# EAGLE library part PCA9306 (library mes)
NXP PCA9603 Voltage Level Translator Dual bidirectional I2C-bus and SMBus voltage-level translator with an enable (EN) input, and is operational from 1.0 V to 3.6 V (Vref(1), VL) and 1.8 V to 5.5 V (Vbias(ref)(2), Vcc). Reference: PCA9306.pdf <http://www.nxp.com/documents/data_sheet/PCA9306.pdf>
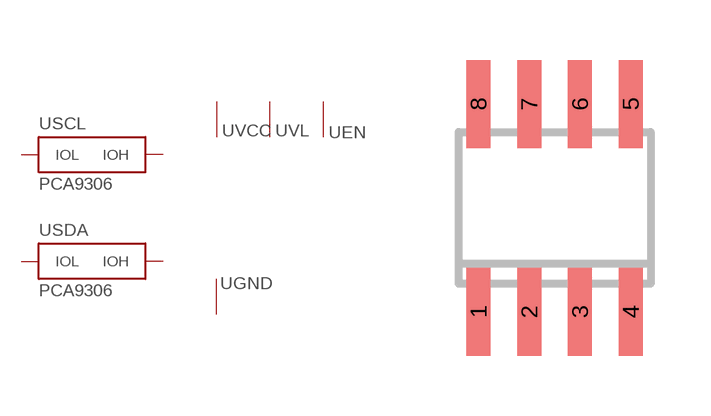
[diagram p9: symbol with the pads of SOIC8; footprint SOIC8]

Designator prefix -; gates SCL=I2C_LEVEL_SHIFT SDA=I2C_LEVEL_SHIFT GND=I2C_LEVEL_SHIFT_GND VCC=I2C_LEVEL_SHIFT_VCC VL=I2C_LEVEL_SHIFT_VL EN=I2C_LEVEL_SHIFT_EN

## PCA9306  [SOIC8]
1  GND:GND
2  VL:VL
3  SCL:IOL
4  SDA:IOL
5  SDA:IOH
6  SCL:IOH
7  VCC:VCC
8  EN:EN

## Footprint SOIC8 (pad centres in mm)
Small Outline IC
smd 0.6 x 2.2: 1 -1.905,-2.6; 2 -0.635,-2.6; 3 0.635,-2.6; 4 1.905,-2.6; 5 1.905,2.6; 6 0.635,2.6; 7 -0.635,2.6; 8 -1.905,2.6